# Altium footprint library Header_Harwin_M50-3600842_16-pos.PcbLib: 1 footprints
Each footprint in its own frame and in the unit in brackets; x right, y up, seen from the top. Pads: shape width x height; smd on the part's side, far side on the other; paste and mask are expansions set on the pad; w line width, h text height; cw(c..) or ccw(c..) is an arc to the next point about the centre after c.
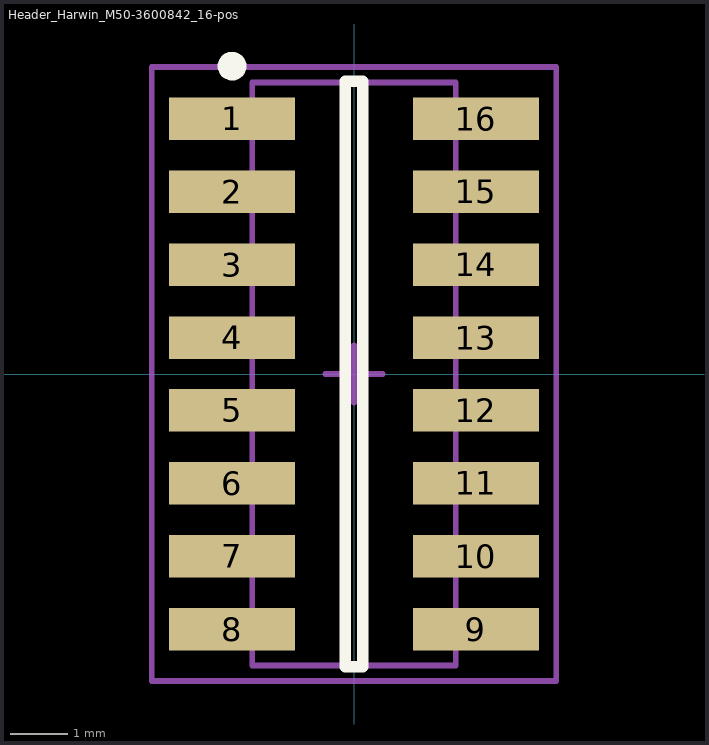
[diagram p0: the footprint, top view; thin cyan lines are the x and y axes]

## Header_Harwin_M50-3600842_16-pos [mm]
height 5.13
pads (16):
  rect 2.2x0.74 smd: 1(-2.125,4.445) 2(-2.125,3.175) 3(-2.125,1.905) 4(-2.125,0.635) 5(-2.125,-0.635) 6(-2.125,-1.905) 7(-2.125,-3.175) 8(-2.125,-4.445) 9(2.125,-4.445) 10(2.125,-3.175) 11(2.125,-1.905) 12(2.125,-0.635) 13(2.125,0.635) 14(2.125,1.905) 15(2.125,3.175) 16(2.125,4.445)
Top Overlay:
  circle w0.25: c-2.125,5.365 r0.125
  lines w0.2: -0.15,-5.1 0.15,-5.1 0.15,5.1 -0.15,5.1 -0.15,-5.1
Mechanical 13:
  lines w0.1: -1.775,-5.08 1.775,-5.08 1.775,5.08 -1.775,5.08 -1.775,-5.08
Mechanical 15:
  lines w0.1: -0.5,0 0.5,0 ; 0,-0.5 0,0.5 ; -3.525,-5.35 3.525,-5.35 3.525,5.35 -3.525,5.35 -3.525,-5.35
3D body: height 5.13, standoff 0, extent -1.775,-5.08 1.775,5.08